# EAGLE library part MICROSD (library r2p_connector)
Micro SD Card
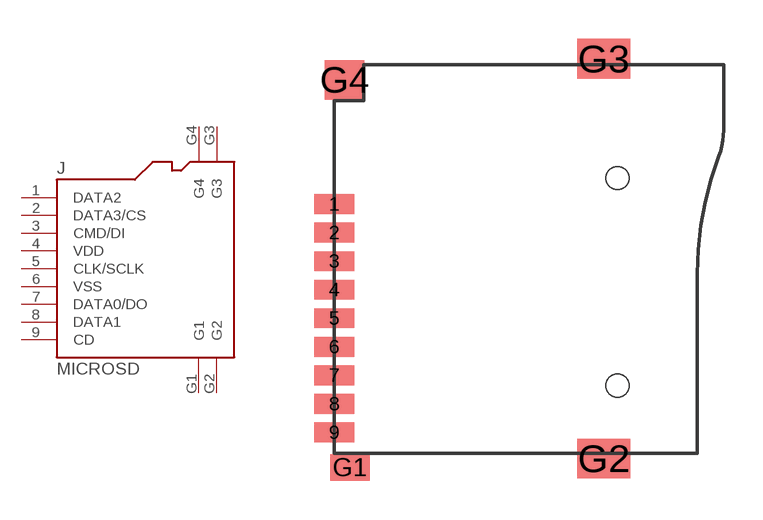
[diagram p4: symbol with the pads of 9P-SMD-W-RING; footprint 9P-SMD-W-RING]

Designator prefix J

## MICROSD-3300060P1  [9P-SMD-W-RING]
1  DATA2
2  DATA3/CS
3  CMD/DI
4  VDD
5  CLK/SCLK
6  VSS
7  DATA0/DO
8  DATA1
9  CD
G1  G1
G2  G2
G3  G3
G4  G4

## Footprint 9P-SMD-W-RING (pad centres in mm)
smd 1.524 x 0.762: 1 -7.493,2.114; 2 -7.493,1.014; 3 -7.493,-0.086; 4 -7.493,-1.186; 5 -7.493,-2.286; 6 -7.493,-3.386; 7 -7.493,-4.486; 8 -7.493,-5.586; 9 -7.493,-6.686
smd 1.524 x 1.016: G1 -6.893,-8.032
smd 2.032 x 1.524: G2 2.88,-7.686; G3 2.88,7.714
smd 1.524 x 1.524: G4 -7.101,6.895
hole 0.889 at 3.407,-4.886
hole 0.889 at 3.407,3.114